# Altium schematic symbol library mylib.SchLib: 6 symbols
Pins are listed as number, name and electrical type; pins without a type are passive.

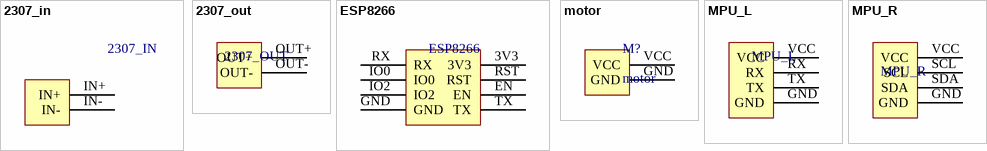
[diagram p0: symbols 2307_in to MPU_R]

## 2307_in
designator 2307_IN  (value not drawn)
footprint HDR1X5 (Footprint not found); pin to pad IN+>1 IN->5
pins: IN+, IN-

## 2307_out
designator 2307_OUT  (value not drawn)
footprint HDR1X5 (Footprint not found); pin to pad OUT+>1 OUT->5
pins: OUT+, OUT-

## ESP8266
designator ESP8266  (value not drawn)
ESP8266
footprint HDR2X4 (Footprint not found); pin to pad 3V3>7 EN>3 GND>2 IO0>6 IO2>4 RST>5 RX>8 TX>1
pins: 3V3, EN, GND, IO0, IO2, RST, RX, TX

## motor
designator M?
footprint HDR1X2 (Footprint not found); pin to pad GND>2 VCC>1
pins: GND, VCC

## MPU_L
designator MPU_L  (value not drawn)
footprint HDR1X4 (Footprint not found); pin to pad GND>4 RX>2 TX>3 VCC>1
pins: GND, RX, TX, VCC

## MPU_R
designator MPU_R  (value not drawn)
footprint HDR1X4 (Footprint not found); pin to pad GND>4 SCL>2 SDA>3 VCC>1
pins: GND, SCL, SDA, VCC